# EAGLE library part 749063010 (library WE-LAN)
WE-LAN LAN Transformer Characteristics Suitable for industrial temperatures from –40 °C up to +125 °C Different version available from 1.5 kV isolation to 6 kV. HPLE version Additional CMC for higher attenuation Non PoE, PoE and PoE++ up to 2 A PoE up to 150 W and speeds up to 1 Gbit/s Available in SMT Compliant with standards: IEEE 802.3u, IEEE 802.3ab, IEEE 802.3af, IEEE 802.3at and IEEE 802.3bt UL Recognized Applications Compatible to Industrial Ethernet systems like EtherCAT or Profinet Compliant with most IC’s for Ethernet applications such as Microchip, Texas Instruments, Broadcom, Linear Technology Router, switches, sensors, robotics, automation, IP cameras, IoT applications Details see: www.we-online.com/en/components/products/WE-LAN Created by Ella 2026-07-23 2026 (C) Würth Elektronik
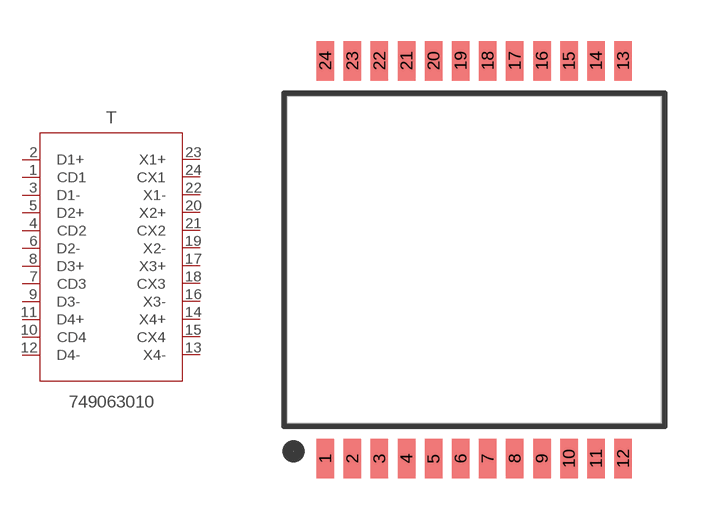
[diagram p44: symbol with the pads of 749063010; footprint 749063010]

Designator prefix T

## 749063010 (DATA-RATE: HD BaseT; DATASHEET: https://www.we-online.com/redexpert/spec/749063010?ae; HPLE: No; IMPROVED-CMRR: No; L: 200 uH; MOUNT: SMT; OPERATING-TEMPERATURE: -40 °C up to +85 °C; PART-NUMBER: 749063010; POE: PoE (up to 350 mA); PORTS: 1; VALUE: 749063010; VT: 1500 V (RMS))  [749063010]
1  CD1  pas
2  D1+  pas
3  D1-  pas
4  CD2  pas
5  D2+  pas
6  D2-  pas
7  CD3  pas
8  D3+  pas
9  D3-  pas
10  CD4  pas
11  D4+  pas
12  D4-  pas
13  X4-  pas
14  X4+  pas
15  CX4  pas
16  X3-  pas
17  X3+  pas
18  CX3  pas
19  X2-  pas
20  X2+  pas
21  CX2  pas
22  X1-  pas
23  X1+  pas
24  CX1  pas

## Footprint 749063010 (pad centres in mm)
WE-LAN LAN Transformer HD BASE-T, 1Port, SMT
smd 0.64 x 1.45: 1 -5.445,-7.275; 2 -4.455,-7.275; 3 -3.465,-7.275; 4 -2.475,-7.275; 5 -1.485,-7.275; 6 -0.495,-7.275; 7 0.495,-7.275; 8 1.485,-7.275; 9 2.475,-7.275; 10 3.465,-7.275; 11 4.455,-7.275; 12 5.445,-7.275; 13 5.445,7.275; 14 4.455,7.275; 15 3.465,7.275; 16 2.475,7.275; 17 1.485,7.275; 18 0.495,7.275; 19 -0.495,7.275; 20 -1.485,7.275; 21 -2.475,7.275; 22 -3.465,7.275; 23 -4.455,7.275; 24 -5.445,7.275